# EAGLE library part DRV2625YFFR (library DRV2625YFFR)
Motor / Motion / Ignition Controllers & Drivers Advanced ERM & LRA Haptics Driver with Smart Loop and Embedded Effects Library 9-DSBGA -40 to 85 Source: Datasheet <https://componentsearchengine.com/Datasheets/1/DRV2625YFFR.pdf>
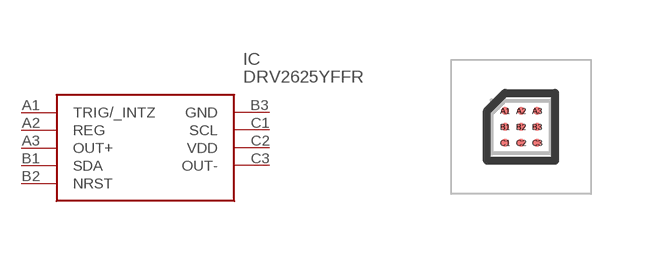
[diagram p0: symbol with the pads of BGA9C40P3X3_147X133X62; footprint BGA9C40P3X3_147X133X62]

Designator prefix IC

## DRV2625YFFR (Description: Motor / Motion / Ignition Controllers & Drivers Advanced ERM & LRA Haptics Driver with Smart Loop and Embedded Effects Library 9-DSBGA -40 to 85; Height: 0.625mm; Manufacturer_Name: Texas Instruments; Manufacturer_Part_Number: DRV2625YFFR; Mouser_Part_Number: 595-DRV2625YFFR; Mouser_Price-Stock: https://www.mouser.co.uk/ProductDetail/Texas-Instruments/DRV2625YFFR?qs=n%252BTO0c4TDSZ6D6FykI88sg%3D%3D)  [BGA9C40P3X3_147X133X62]
A1  TRIG/_INTZ
A2  REG
A3  OUT+
B1  SDA
B2  NRST
B3  GND
C1  SCL
C2  VDD
C3  OUT-

## Footprint BGA9C40P3X3_147X133X62 (pad centres in mm)
YFF0009-C01
smd 0.2 x 0.2: A1 -0.4,0.4; A2 0,0.4; A3 0.4,0.4; B1 -0.4,0; B2 0,0; B3 0.4,0; C1 -0.4,-0.4; C2 0,-0.4; C3 0.4,-0.4